# Altium schematic symbol library sensor_image.SchLib: 8 symbols
Pins are listed as number, name and electrical type; pins without a type are passive.

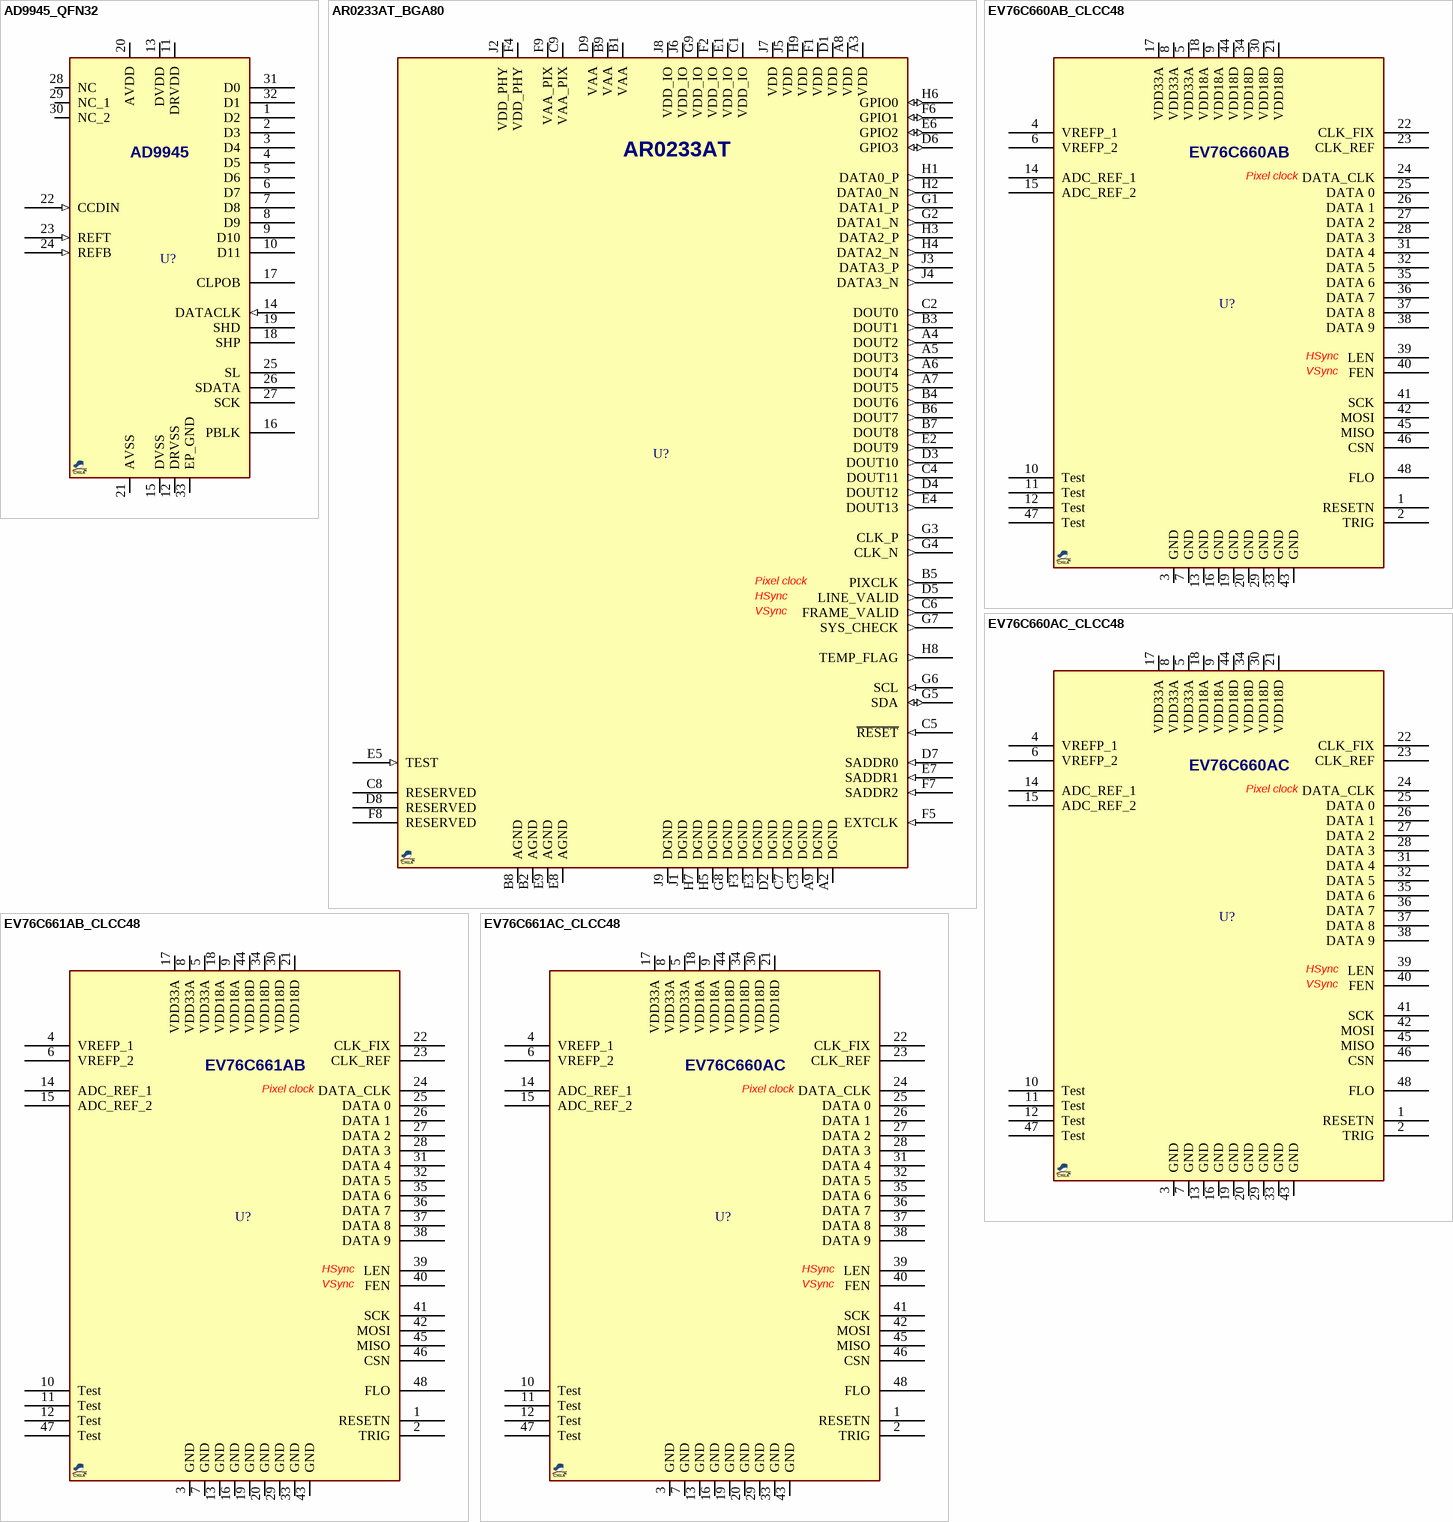
[diagram p0: symbols AD9945_QFN32 to EV76C661AC_CLCC48]

## AD9945_QFN32
designator U?, comment AD9945  (value not drawn)
CCD Processor, 12-Bit, 40MHz; MANF: Analog Devices; MANF_P#: AD9945KCPZ; PARAM2: 3v; PARAM: 3wire, 40Msps,; PRICE: 11$; VALUE: AD9945
footprint QFN50_32T (QFN-32, RGJ, 5X5mm, 0.5mm)
pins: 1 D2, 2 D3, 3 D4, 4 D5, 5 D6, 6 D7, 7 D8, 8 D9, 9 D10, 10 D11, 11 DRVDD (power), 12 DRVSS (power), 13 DVDD (power), 14 DATACLK (in), 15 DVSS (power), 16 PBLK, 17 CLPOB, 18 SHP, 19 SHD, 20 AVDD (power), 21 AVSS (power), 22 CCDIN (in), 23 REFT (in), 24 REFB (in), 25 SL, 26 SDATA, 27 SCK, 28 NC, 29 NC_1, 30 NC_2, 31 D0, 32 D1, 33 EP_GND (power)

## AR0233AT_BGA80
designator U?, comment AR0233AT  (value not drawn)
CMOS Image sensor, 2.6MP, 1/2.5”; MANF: ON semi; MANF_P#: AR0233AT2C17XUEA0-DRBR-E; PARAM2: 3.3 and 1.8 Vcc; PARAM: 2.6MP, 1/2.5”; PRICE: 300$; VALUE: AR0233AT
footprint BGA100_80_S10 (IBGA, 80-Balls, Body 10x10mm, Pitch 1mm)
pins: A2 DGND (power), A3 VDD (power), A4 DOUT2 (out), A5 DOUT3 (out), A6 DOUT4 (out), A7 DOUT5 (out), A8 VDD (power), A9 DGND (power), B1 VAA (power), B2 AGND (power), B3 DOUT1 (out), B4 DOUT6 (out), B5 PIXCLK (out), B6 DOUT7 (out), B7 DOUT8 (out), B8 AGND (power), B9 VAA (power), C1 VDD_IO (power), C2 DOUT0 (out), C3 DGND (power), C4 DOUT11 (out), C5 ~{RESET} (in), C6 FRAME_VALID (out), C7 DGND (power), C8 RESERVED, C9 VAA_PIX (power), D1 VDD (power), D2 DGND (power), D3 DOUT10 (out), D4 DOUT12 (out), D5 LINE_VALID (out), D6 GPIO3 (io), D7 SADDR0 (in), D8 RESERVED, D9 VAA (power), E1 VDD_IO (power), E2 DOUT9 (out), E3 DGND (power), E4 DOUT13 (out), E5 TEST (in), E6 GPIO2 (io), E7 SADDR1 (in), E8 AGND (power), E9 AGND (power), F1 VDD (power), F2 VDD_IO (power), F3 DGND (power), F4 VDD_PHY (power), F5 EXTCLK (in), F6 GPIO1 (io), F7 SADDR2 (in), F8 RESERVED, F9 VAA_PIX (power), G1 DATA1_P (out), G2 DATA1_N (out), G3 CLK_P (out), G4 CLK_N (out), G5 SDA (io), G6 SCL (in), G7 SYS_CHECK (out), G8 DGND (power), G9 VDD_IO (power), H1 DATA0_P (out), H2 DATA0_N (out), H3 DATA2_P (out), H4 DATA2_N (out), H5 DGND (power), H6 GPIO0 (io), H7 DGND (power), H8 TEMP_FLAG (out), H9 VDD (power), J1 DGND (power), J2 VDD_PHY (power), J3 DATA3_P (out), J4 DATA3_N (out), J5 VDD (power), J6 VDD_IO (power), J7 VDD (power), J8 VDD_IO (power), J9 DGND (power)
text: Pixel clock; HSync; VSync

## EV76C660AB_CLCC48
designator U?, comment EV76C660AB  (value not drawn)
CMOS Image sensor, 1.3MP, 5.3 µm square pixels; MANF: E2V; MANF_P#: EV76C660ABT-EQ; PARAM2: 3.3 and 1.8 Vcc; PARAM: 1.3MP, 5.3 µm square pixels, monochrome; PRICE: 130$; VALUE: EV76C660AB
footprint CLCC48 (Footprint not found)
pins: 1 RESETN, 2 TRIG, 3 GND, 4 VREFP_1, 5 VDD33A, 6 VREFP_2, 7 GND, 8 VDD33A, 9 VDD18A, 10 Test, 11 Test, 12 Test, 13 GND, 14 ADC_REF_1, 15 ADC_REF_2, 16 GND, 17 VDD33A, 18 VDD18A, 19 GND, 20 GND, 21 VDD18D, 22 CLK_FIX, 23 CLK_REF, 24 DATA_CLK, 25 DATA 0, 26 DATA 1, 27 DATA 2, 28 DATA 3, 29 GND, 30 VDD18D, 31 DATA 4, 32 DATA 5, 33 GND, 34 VDD18D, 35 DATA 6, 36 DATA 7, 37 DATA 8, 38 DATA 9, 39 LEN, 40 FEN, 41 SCK, 42 MOSI, 43 GND, 44 VDD18D, 45 MISO, 46 CSN, 47 Test, 48 FLO
text: Pixel clock; HSync; VSync

## EV76C660AC_CLCC48
designator U?, comment EV76C660AC  (value not drawn)
CMOS Image sensor, 1.3MP, 5.3 µm square pixels; MANF: E2V; MANF_P#: EV76C660ACT-EQ; PARAM2: 3.3 and 1.8 Vcc; PARAM: 1.3MP, 5.3 µm square pixels; PRICE: 130$; VALUE: EV76C660AC
footprint CLCC48 (Footprint not found)
pins: 1 RESETN, 2 TRIG, 3 GND, 4 VREFP_1, 5 VDD33A, 6 VREFP_2, 7 GND, 8 VDD33A, 9 VDD18A, 10 Test, 11 Test, 12 Test, 13 GND, 14 ADC_REF_1, 15 ADC_REF_2, 16 GND, 17 VDD33A, 18 VDD18A, 19 GND, 20 GND, 21 VDD18D, 22 CLK_FIX, 23 CLK_REF, 24 DATA_CLK, 25 DATA 0, 26 DATA 1, 27 DATA 2, 28 DATA 3, 29 GND, 30 VDD18D, 31 DATA 4, 32 DATA 5, 33 GND, 34 VDD18D, 35 DATA 6, 36 DATA 7, 37 DATA 8, 38 DATA 9, 39 LEN, 40 FEN, 41 SCK, 42 MOSI, 43 GND, 44 VDD18D, 45 MISO, 46 CSN, 47 Test, 48 FLO
text: Pixel clock; HSync; VSync

## EV76C661AB_CLCC48
designator U?, comment EV76C661AB  (value not drawn)
CMOS Image sensor, 1.3MP, 5.3 µm square pixels; MANF: E2V; MANF_P#: EV76C661ABT-EQ; PARAM2: 3.3 and 1.8 Vcc; PARAM: 1.3MP, 5.3 µm square pixels, monochrome; PRICE: 130$; VALUE: EV76C661AB
footprint CLCC48 (Footprint not found)
pins: 1 RESETN, 2 TRIG, 3 GND, 4 VREFP_1, 5 VDD33A, 6 VREFP_2, 7 GND, 8 VDD33A, 9 VDD18A, 10 Test, 11 Test, 12 Test, 13 GND, 14 ADC_REF_1, 15 ADC_REF_2, 16 GND, 17 VDD33A, 18 VDD18A, 19 GND, 20 GND, 21 VDD18D, 22 CLK_FIX, 23 CLK_REF, 24 DATA_CLK, 25 DATA 0, 26 DATA 1, 27 DATA 2, 28 DATA 3, 29 GND, 30 VDD18D, 31 DATA 4, 32 DATA 5, 33 GND, 34 VDD18D, 35 DATA 6, 36 DATA 7, 37 DATA 8, 38 DATA 9, 39 LEN, 40 FEN, 41 SCK, 42 MOSI, 43 GND, 44 VDD18D, 45 MISO, 46 CSN, 47 Test, 48 FLO
text: Pixel clock; HSync; VSync

## EV76C661AC_CLCC48
designator U?, comment EV76C661AC  (value not drawn)
CMOS Image sensor, 1.3MP, 5.3 µm square pixels; MANF: E2V; MANF_P#: EV76C661ACT-EQ; PARAM2: 3.3 and 1.8 Vcc; PARAM: 1.3MP, 5.3 µm square pixels; PRICE: 130$; VALUE: EV76C661AC
footprint CLCC48 (Footprint not found)
pins: 1 RESETN, 2 TRIG, 3 GND, 4 VREFP_1, 5 VDD33A, 6 VREFP_2, 7 GND, 8 VDD33A, 9 VDD18A, 10 Test, 11 Test, 12 Test, 13 GND, 14 ADC_REF_1, 15 ADC_REF_2, 16 GND, 17 VDD33A, 18 VDD18A, 19 GND, 20 GND, 21 VDD18D, 22 CLK_FIX, 23 CLK_REF, 24 DATA_CLK, 25 DATA 0, 26 DATA 1, 27 DATA 2, 28 DATA 3, 29 GND, 30 VDD18D, 31 DATA 4, 32 DATA 5, 33 GND, 34 VDD18D, 35 DATA 6, 36 DATA 7, 37 DATA 8, 38 DATA 9, 39 LEN, 40 FEN, 41 SCK, 42 MOSI, 43 GND, 44 VDD18D, 45 MISO, 46 CSN, 47 Test, 48 FLO
text: EV76C660AC; Pixel clock; HSync; VSync

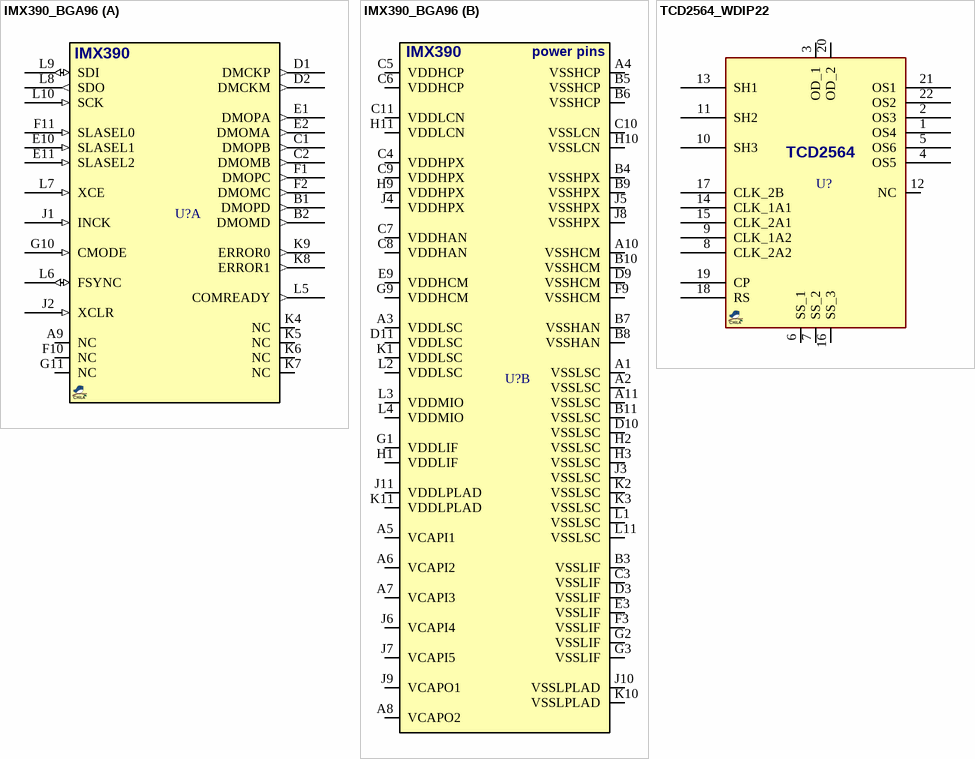
[diagram p1: symbols IMX390_BGA96 to TCD2564_WDIP22]

## IMX390_BGA96
designator U?, comment IMX390  (value not drawn)
CMOS Image sensor, 2.1MP; MANF: Sony; MANF_P#: IMX390CQV-W; PARAM2: 3.3 and 1.8 Vcc; PARAM: 2.1MP; PRICE: 300$; VALUE: IMX390
footprint BGA80_96_S10 (BGA, 96-Balls, Body 10.6x10mm, Pitch 0.8mm)
part A pins: A9 NC, B1 DMOPD (out), B2 DMOMD (out), C1 DMOPB (out), C2 DMOMB (out), D1 DMCKP (out), D2 DMCKM (out), E1 DMOPA (out), E2 DMOMA (out), E10 SLASEL1 (in), E11 SLASEL2 (in), F1 DMOPC (out), F2 DMOMC (out), F10 NC, F11 SLASEL0 (in), G10 CMODE (in), G11 NC, J1 INCK (in), J2 XCLR (in), K4 NC, K5 NC, K6 NC, K7 NC, K8 ERROR1 (out), K9 ERROR0 (out), L5 COMREADY (out), L6 FSYNC (io), L7 XCE (in), L8 SDO (out), L9 SDI (io), L10 SCK (in)
part B pins: A1 VSSLSC (power), A2 VSSLSC (power), A3 VDDLSC (power), A4 VSSHCP (power), A5 VCAPI1, A6 VCAPI2, A7 VCAPI3, A8 VCAPO2, A10 VSSHCM (power), A11 VSSLSC (power), B3 VSSLIF (power), B4 VSSHPX (power), B5 VSSHCP (power), B6 VSSHCP (power), B7 VSSHAN (power), B8 VSSHAN (power), B9 VSSHPX (power), B10 VSSHCM (power), B11 VSSLSC (power), C3 VSSLIF (power), C4 VDDHPX (power), C5 VDDHCP (power), C6 VDDHCP (power), C7 VDDHAN (power), C8 VDDHAN (power), C9 VDDHPX (power), C10 VSSLCN (power), C11 VDDLCN (power), D3 VSSLIF (power), D9 VSSHCM (power), D10 VSSLSC (power), D11 VDDLSC (power), E3 VSSLIF (power), E9 VDDHCM (power), F3 VSSLIF (power), F9 VSSHCM (power), G1 VDDLIF (power), G2 VSSLIF (power), G3 VSSLIF (power), G9 VDDHCM (power), H1 VDDLIF (power), H2 VSSLSC (power), H3 VSSLSC (power), H9 VDDHPX (power), H10 VSSLCN (power), H11 VDDLCN (power), J3 VSSLSC (power), J4 VDDHPX (power), J5 VSSHPX (power), J6 VCAPI4, J7 VCAPI5, J8 VSSHPX (power), J9 VCAPO1, J10 VSSLPLAD (power), J11 VDDLPLAD (power), K1 VDDLSC (power), K2 VSSLSC (power), K3 VSSLSC (power), K10 VSSLPLAD (power), K11 VDDLPLAD (power), L1 VSSLSC (power), L2 VDDLSC (power), L3 VDDMIO (power), L4 VDDMIO (power), L11 VSSLSC (power)
part B text: power pins

## TCD2564_WDIP22
designator U?, comment TCD2564  (value not drawn)
CCD Image sensor; MANF: Toshiba; MANF_P#: TCD2564DG; PARAM2: 10VCC; PARAM: 5400 elements x 3 lines; PRICE: 11$; VALUE: TCD2564
footprint WDIP_22 (Footprint not found)
pins: 1 OS4, 2 OS3, 3 OD_1, 4 OS5, 5 OS6, 6 SS_1, 7 SS_2, 8 CLK_2A2, 9 CLK_1A2, 10 SH3, 11 SH2, 12 NC, 13 SH1, 14 CLK_1A1, 15 CLK_2A1, 16 SS_3, 17 CLK_2B, 18 RS, 19 CP, 20 OD_2, 21 OS1, 22 OS2